# EAGLE library part DAC8562T (library texas-instruments)
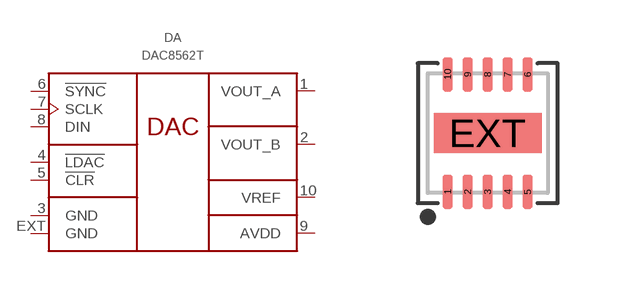
[diagram p18: symbol with the pads of WSON10; footprint WSON10]

Designator prefix DA

## DAC8562TDSCR  [WSON10]
1  VOUT_A  out
2  VOUT_B  out
3  GND  pwr
4  !LDAC  in
5  !CLR  in
6  !SYNC  in
7  SCLK  in
8  DIN  in
9  AVDD  pwr
10  VREF
EXT  GND  pwr

## DAC8562TDSCT  [WSON10]
Pads as for WSON10

## Footprint WSON10 (pad centres in mm)
smd 0.25 x 0.85: 1 -1,-1.47; 2 -0.5,-1.47; 3 0,-1.47; 4 0.5,-1.47; 5 1,-1.47; 6 1,1.47; 7 0.5,1.47; 8 0,1.47; 9 -0.5,1.47; 10 -1,1.47
smd 2.7 x 1: EXT 0,0